# Altium integrated library MBR1045STR.IntLib: 1 symbol
Pins are listed as number, name and electrical type; pins without a type are passive.

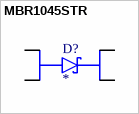
[diagram p0: symbol MBR1045STR]

## MBR1045STR
designator D?
Diode Schottky 45 V 10A Surface Mount TO-277B; MP: MBR1045STR; MF: Sangdest Microelectronics; SnapEDA_Link: https://www.snapeda.com/parts/MBR1045STR/Sangdest+Microelectronics/view-part/?ref=snap; Package: TO-277 SMC Diode Solutions; Check_prices: https://www.snapeda.com/parts/MBR1045STR/Sangdest+Microelectronics/view-part/?ref=eda; Purchase-URL: https://pricing.snapeda.com/search/part/MBR1045STR/?ref=eda; Price: None; Availability: In Stock; Value: *
footprint DIO_MBR1045STR
pins: 1 A, 2 A__1, 3 K, 4 K__1